# Altium schematic symbol library Schlib1.SchLib: 1 symbol
Pins are listed as number, name and electrical type; pins without a type are passive.

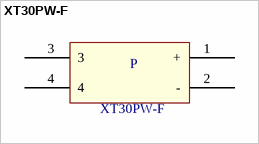
[diagram p0: symbol XT30PW-F]

## XT30PW-F
designator P
footprint XT30PW-F
pins: 1 +, 2 -, 3, 4